# EAGLE library part PIC18F0*0? (library microchip2)
High Performance 8pin Microcontrollers
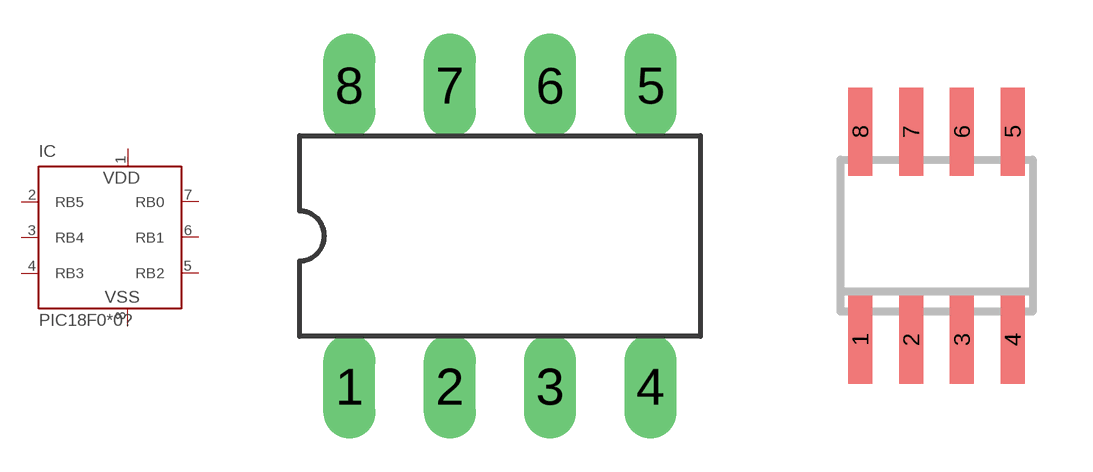
[diagram p159: symbol with the pads of DIL8; footprints DIL8, SO-08]

Designator prefix IC

## PIC18F010P, PIC18F020P  [DIL8]
1  VDD  pwr
2  RB5  in
3  RB4  in
4  RB3  in
5  RB2  hiz
6  RB1  out
7  RB0  in
8  VSS  pwr

## PIC18F010SN, PIC18F020SN  [SO-08]
Pads as for DIL8

## Footprint DIL8 (pad centres in mm)
DIL package type P
drill 0.813 long: 1 -3.81,-3.81; 2 -1.27,-3.81; 3 1.27,-3.81; 4 3.81,-3.81; 5 3.81,3.81; 6 1.27,3.81; 7 -1.27,3.81; 8 -3.81,3.81

## Footprint SO-08 (pad centres in mm)
Small Outline Narrow Plastic Gull Wing 150-mil body package type SN
smd 0.6 x 2.2: 1 -1.905,-2.6; 2 -0.635,-2.6; 3 0.635,-2.6; 4 1.905,-2.6; 5 1.905,2.6; 6 0.635,2.6; 7 -0.635,2.6; 8 -1.905,2.6